# Altium footprint library test_lib.PcbLib: 22 footprints (part 1 of 2)
Each footprint in its own frame and in the unit in brackets; x right, y up, seen from the top. Pads: shape width x height; smd on the part's side, far side on the other; paste and mask are expansions set on the pad; w line width, h text height; cw(c..) or ccw(c..) is an arc to the next point about the centre after c.
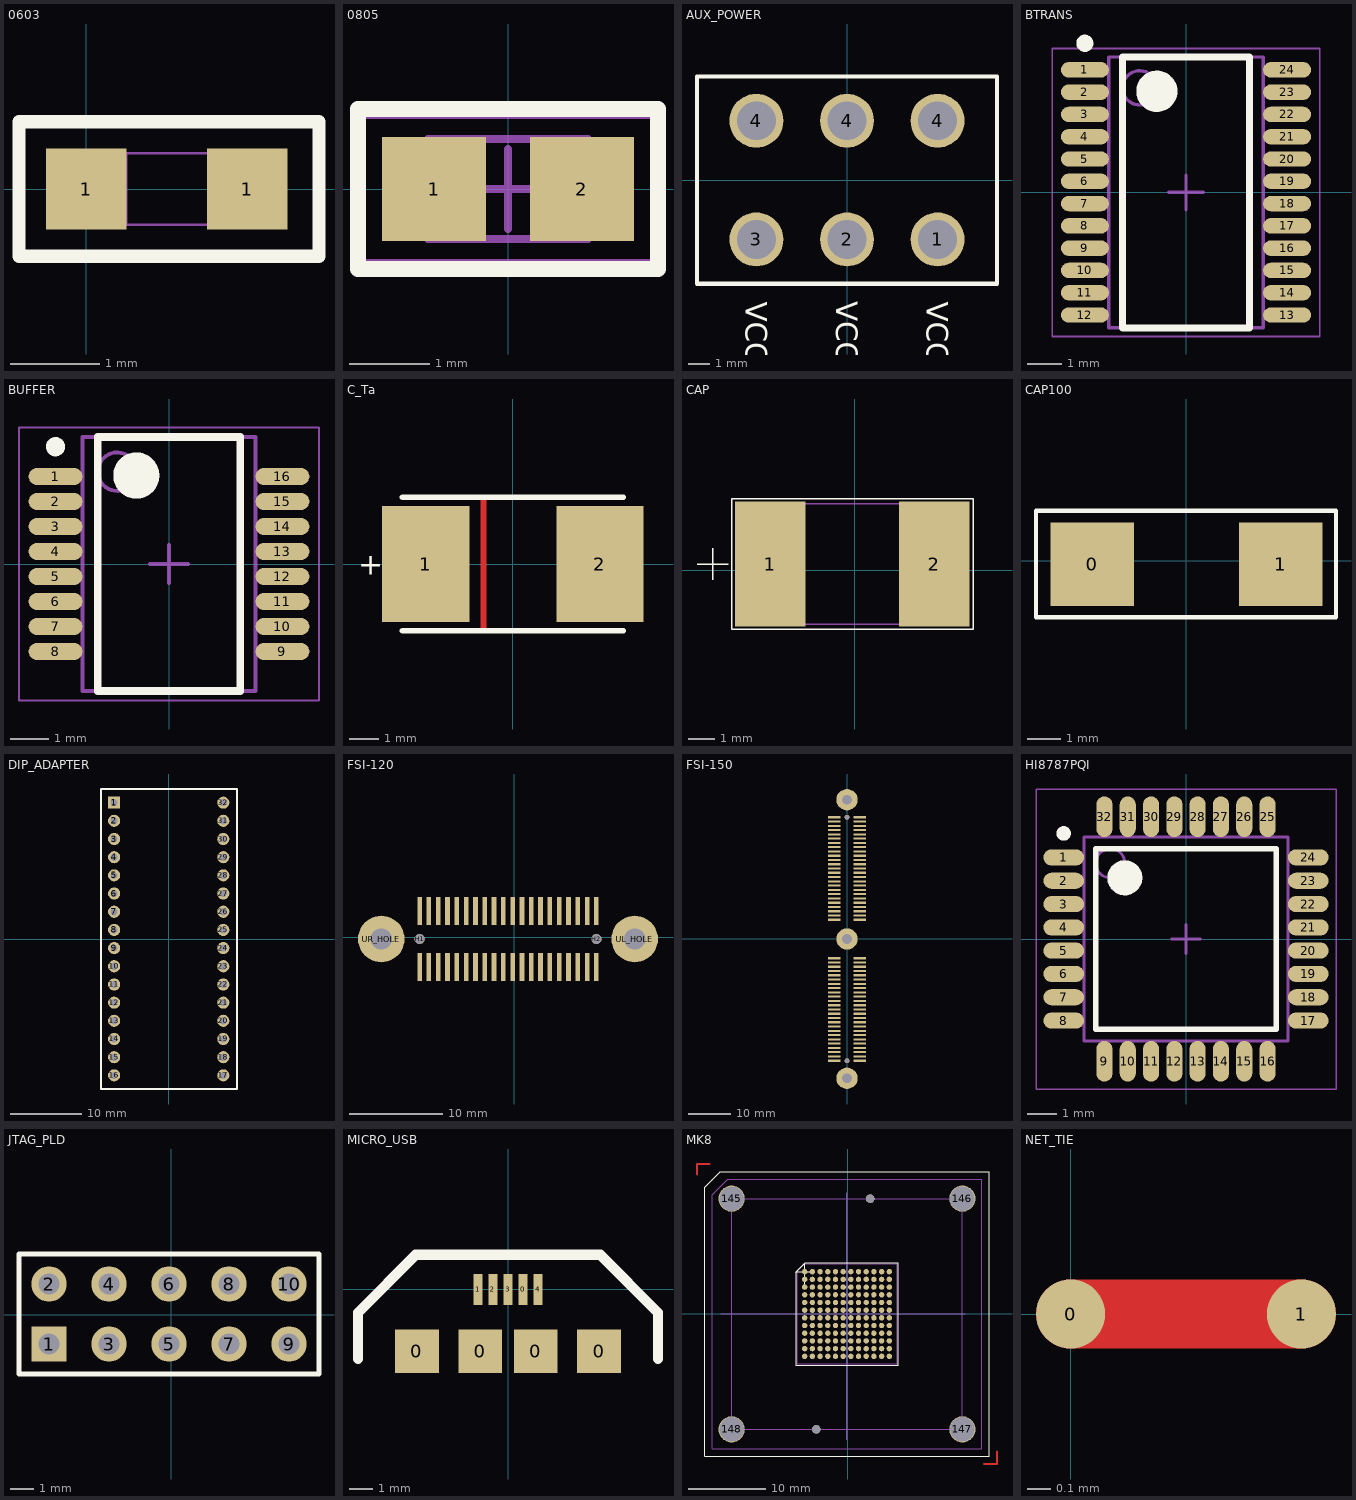
[diagram p0: the footprints below, top view; thin cyan lines are the x and y axes]

## 0603 [mm] "0603 footprint"
pads (2):
  rect 0.9x0.9 smd: 1(0,0)
  rect 0.9x0.9 smd mask+0.102: 1(1.8,0)
Top Overlay:
  lines w0.15: -0.75,-0.75 2.6,-0.75 2.6,-0.375 2.6,0.375 2.6,0.75 -0.75,0.75 -0.75,-0.75
Mechanical 1:
  lines w0.025: 0.15,0.4 0.15,-0.4 1.75,-0.4 1.75,0.4 0.16,0.4 ; 1.46,-0.4 1.46,0.4
Mechanical 2:
  lines w0.025: 0.45,-0.4 0.45,0.4

## 0805 [mm]
height 0.4
pads (2):
  rect 1.3x1.3 smd: 1(-0.925,0) 2(0.925,0)
Top Overlay:
  lines w0.2: -1.875,-1 -1.875,1 1.875,1 1.875,-1 -1.875,-1
Mechanical 13:
  lines w0.1: -1,-0.625 1,-0.625 1,0.625 -1,0.625 -1,-0.625
Mechanical 15:
  lines w0.05: -1.825,-0.9 1.825,-0.9 1.825,0.9 -1.825,0.9 -1.825,-0.9
  lines w0.1: -0.5,0 0.5,0 ; 0,-0.5 0,0.5
3D body: height 0.4, standoff 0, extent -1,-0.625 1,0.625

## AUX_POWER [mm] "auxiliary power port"
pads (6):
  round 2.5 hole 1.8: 1(4.2,-2.75) 2(0,-2.75) 3(-4.2,-2.75) 4(-4.2,2.75) 4(0,2.75) 4(4.2,2.75)
Top Overlay:
  lines w0.2: -6.95,-4.8 -6.95,4.8 6.95,4.8 6.95,-4.8 -6.95,-4.8
  text "VCC1" at 3.7,-5.625 h1
  text "VCC2" at -0.5,-5.625 h1
  text "VCC3-" at -4.7,-5.625 h1

## BTRANS [mm]
height 1.2
pads (24):
  oval 1.4x0.45 smd: 1(-2.95,3.575) 2(-2.95,2.925) 3(-2.95,2.275) 4(-2.95,1.625) 5(-2.95,0.975) 6(-2.95,0.325) 7(-2.95,-0.325) 8(-2.95,-0.975) 9(-2.95,-1.625) 10(-2.95,-2.275) 11(-2.95,-2.925) 12(-2.95,-3.575) 13(2.95,-3.575) 14(2.95,-2.925) 15(2.95,-2.275) 16(2.95,-1.625) 17(2.95,-0.975) 18(2.95,-0.325) 19(2.95,0.325) 20(2.95,0.975) 21(2.95,1.625) 22(2.95,2.275) 23(2.95,2.925) 24(2.95,3.575)
Top Overlay:
  circle w0.25: c-2.95,4.35 r0.125
  circle w0.6: c-0.85,2.95 r0.3
  lines w0.2: -1.85,-3.95 -1.85,3.95 1.85,3.95 1.85,-3.95 -1.85,-3.95
Mechanical 13:
  circle w0.1: c-1.35,3.05 r0.5
  lines w0.1: -2.25,-3.95 -2.25,3.95 2.25,3.95 2.25,-3.95 -2.25,-3.95
Mechanical 15:
  lines w0.05: -3.9,-4.2 -3.9,4.2 3.9,4.2 3.9,-4.2 -3.9,-4.2
  lines w0.1: -0.5,0 0.5,0 ; 0,-0.5 0,0.5
3D body: height 1.2, standoff 0.05, extent -2.25,-3.95 2.25,3.95

## BUFFER [mm] "txs0108epwr voltage translator"
height 1.2
pads (16):
  oval 1.4x0.45 smd: 1(-2.95,2.275) 2(-2.95,1.625) 3(-2.95,0.975) 4(-2.95,0.325) 5(-2.95,-0.325) 6(-2.95,-0.975) 7(-2.95,-1.625) 8(-2.95,-2.275) 9(2.95,-2.275) 10(2.95,-1.625) 11(2.95,-0.975) 12(2.95,-0.325) 13(2.95,0.325) 14(2.95,0.975) 15(2.95,1.625) 16(2.95,2.275)
Top Overlay:
  circle w0.25: c-2.95,3.05 r0.125
  circle w0.6: c-0.85,2.3 r0.3
  lines w0.2: -1.85,-3.3 -1.85,3.3 1.85,3.3 1.85,-3.3 -1.85,-3.3
Mechanical 13:
  circle w0.1: c-1.35,2.4 r0.5
  lines w0.1: -2.25,-3.3 -2.25,3.3 2.25,3.3 2.25,-3.3 -2.25,-3.3
Mechanical 15:
  lines w0.05: -3.9,-3.55 -3.9,3.55 3.9,3.55 3.9,-3.55 -3.9,-3.55
  lines w0.1: -0.5,0 0.5,0 ; 0,-0.5 0,0.5
3D body: height 1.2, standoff 0.15, extent -2.25,-3.3 2.25,3.3

## C_Ta [mm]
pads (2):
  rect 3x4 smd: 1(-3,0) 2(3,0)
Top Layer:
  lines w0.2: -1.016,-2.159 -1.016,2.159
Top Overlay:
  lines w0.2: -3.8,-2.3 3.8,-2.3 ; -3.8,2.3 3.8,2.3
  text "+" at -5.334,-0.375 h0.75
3D body "CAPMP7343X430N.stp": height 4.3, standoff 0, extent -3.8,-2.3 3.8,2.3

## CAP [mm]
pads (2):
  rect 2.7x4.8 smd: 1(-3.238,0.24) 2(3.062,0.24)
Top Overlay:
  lines w0.05: -6.038,0.24 -4.838,0.24 ; -5.438,-0.36 -5.438,0.84 ; -4.698,-2.26 -4.698,2.74 4.552,2.74 4.552,-2.26 -4.698,-2.26
Mechanical 1:
  lines w0.05: -3.788,-2.06 -3.788,2.54 3.612,2.54 3.612,-2.06 -3.788,-2.06

## CAP100 [mm]
pads (2):
  rect 2.5x2.5 smd: 0(-2.812,-0.111) 1(2.838,-0.111)
Top Layer:
  lines w0.5: 2.236,-0.111 2.838,-0.111 2.838,-0.913
Top Overlay:
  lines w0.125: -4.5,-1.7 -4.5,1.5 4.5,1.5 4.5,-1.7 -4.5,-1.7

## DIP_ADAPTER [mm]
pads (32):
  rect 1.7x1.7 hole 1: 1(-7.625,19.1)
  round 1.7 hole 1: 2(-7.625,16.56) 3(-7.625,14.02) 4(-7.625,11.48) 5(-7.625,8.94) 6(-7.625,6.4) 7(-7.625,3.86) 8(-7.625,1.32) 9(-7.625,-1.22) 10(-7.625,-3.76) 11(-7.625,-6.3) 12(-7.625,-8.84) 13(-7.625,-11.38) 14(-7.625,-13.92) 15(-7.625,-16.46) 16(-7.625,-19) 17(7.625,-19) 18(7.625,-16.46) 19(7.625,-13.92) 20(7.625,-11.38) 21(7.625,-8.84) 22(7.625,-6.3) 23(7.625,-3.76) 24(7.625,-1.22) 25(7.625,1.32) 26(7.625,3.86) 27(7.625,6.4) 28(7.625,8.94) 29(7.625,11.48) 30(7.625,14.02) 31(7.625,16.56) 32(7.625,19.1)
Top Overlay:
  lines w0.254: -9.45,-20.905 -9.45,21.005 9.53,21.005 9.53,-20.905 -9.45,-20.905

## FSI-120 [mm]
pads (44):
  rect 0.5x3 smd: 1(8.833,-3.186) 2(7.833,-3.186) 3(6.833,-3.186) 4(5.833,-3.186) 5(4.833,-3.186) 6(3.833,-3.186) 7(2.833,-3.186) 8(1.833,-3.186) 9(0.833,-3.186) 10(-0.167,-3.186) 11(-1.167,-3.186) 12(-2.167,-3.186) 13(-3.167,-3.186) 14(-4.167,-3.186) 15(-5.167,-3.186) 16(-6.167,-3.186) 17(-7.167,-3.186) 18(-8.167,-3.186) 19(-9.167,-3.186) 20(-10.167,-3.186) 21(-10.167,2.814) 22(-9.167,2.814) 23(-8.167,2.814) 24(-7.167,2.814) 25(-6.167,2.814) 26(-5.167,2.814) 27(-4.167,2.814) 28(-3.167,2.814) 29(-2.167,2.814) 30(-1.167,2.814) 31(-0.167,2.814) 32(0.833,2.814) 33(1.833,2.814) 34(2.833,2.814) 35(3.833,2.814) 36(4.833,2.814) 37(5.833,2.814) 38(6.833,2.814) 39(7.833,2.814) 40(8.833,2.814)
  round 1.1 hole 1.1 unplated: H1(-10.167,-0.186) H2(8.833,-0.186)
  round 5 hole 2.3: UL_HOLE(12.953,-0.186) UR_HOLE(-14.287,-0.186)
3D body "FSI-120-06-L-D-M-AD.stp": height 8.25, standoff -0.55, extent -17.717,-5.186 16.383,4.814

## FSI-150 [mm]
pads (105):
  round 1.1 hole 1.1 unplated: 1(-0.063,-28.521) 1(-0.063,28.479)
  rect 3x0.5 smd: R_1(2.937,-28.52) R_2(-3.063,-28.52) R_3(2.937,-27.52) R_4(-3.063,-27.52) R_5(2.937,-26.52) R_6(-3.063,-26.52) R_7(2.937,-25.52) R_8(-3.063,-25.52) R_9(2.937,-24.52) R_10(-3.063,-24.52) R_11(2.937,-23.52) R_12(-3.063,-23.52) R_13(2.937,-22.52) R_14(-3.063,-22.52) R_15(2.937,-21.52) R_16(-3.063,-21.52) R_17(2.937,-20.52) R_18(-3.063,-20.52) R_19(2.937,-19.52) R_20(-3.063,-19.52) R_21(2.937,-18.52) R_22(-3.063,-18.52) R_23(2.937,-17.52) R_24(-3.063,-17.52) R_25(2.937,-16.52) R_26(-3.063,-16.52) R_27(2.937,-15.52) R_28(-3.063,-15.52) R_29(2.937,-14.52) R_30(-3.063,-14.52) R_31(2.937,-13.52) R_32(-3.063,-13.52) R_33(2.937,-12.52) R_34(-3.063,-12.52) R_35(2.937,-11.52) R_36(-3.063,-11.52) R_37(2.937,-10.52) R_38(-3.063,-10.52) R_39(2.937,-9.52) R_40(-3.063,-9.52) R_41(2.937,-8.52) R_42(-3.063,-8.52) R_43(2.937,-7.52) R_44(-3.063,-7.52) R_45(2.937,-6.52) R_46(-3.063,-6.52) R_47(2.937,-5.52) R_48(-3.063,-5.52) R_49(2.937,-4.52) R_50(-3.063,-4.52) R_51(2.937,4.479) R_52(-3.063,4.479) R_53(2.937,5.479) R_54(-3.063,5.479) R_55(2.937,6.479) R_56(-3.063,6.479) R_57(2.937,7.479) R_58(-3.063,7.479) R_59(2.937,8.479) R_60(-3.063,8.479) R_61(2.937,9.479) R_62(-3.063,9.479) R_63(2.937,10.479) R_64(-3.063,10.479) R_65(2.937,11.479) R_66(-3.063,11.479) R_67(2.937,12.479) R_68(-3.063,12.479) R_69(2.937,13.479) R_70(-3.063,13.479) R_71(2.937,14.479) R_72(-3.063,14.479) R_73(2.937,15.479) R_74(-3.063,15.479) R_75(2.937,16.479) R_76(-3.063,16.479) R_77(2.937,17.479) R_78(-3.063,17.479) R_79(2.937,18.479) R_80(-3.063,18.479) R_81(2.937,19.479) R_82(-3.063,19.479) R_83(2.937,20.479) R_84(-3.063,20.479) R_85(2.937,21.479) R_86(-3.063,21.479) R_87(2.937,22.479) R_88(-3.063,22.479) R_89(2.937,23.479) R_90(-3.063,23.479) R_91(2.937,24.479) R_92(-3.063,24.479) R_93(2.937,25.479) R_94(-3.063,25.479) R_95(2.937,26.479) R_96(-3.063,26.479) R_97(2.937,27.479) R_98(-3.063,27.479) R_99(2.937,28.479) R_100(-3.063,28.479)
  round 5 hole 2.3: RB_HOLE(-0.063,-32.641) RM_HOLE(-0.063,-0.021) RU_HOLE(-0.063,32.599)
3D body "FSI-150-06-L-D-M-AD.stp": height 8.25, standoff -0.55, extent -5.141,-36.051 4.859,36.049

## HI8787PQI [mm]
pads (32):
  oval 1.4x0.55 smd: 1(-4.2,2.8) 2(-4.2,2) 3(-4.2,1.2) 4(-4.2,0.4) 5(-4.2,-0.4) 6(-4.2,-1.2) 7(-4.2,-2) 8(-4.2,-2.8) 17(4.2,-2.8) 18(4.2,-2) 19(4.2,-1.2) 20(4.2,-0.4) 21(4.2,0.4) 22(4.2,1.2) 23(4.2,2) 24(4.2,2.8)
  oval 0.55x1.4 smd: 9(-2.8,-4.2) 10(-2,-4.2) 11(-1.2,-4.2) 12(-0.4,-4.2) 13(0.4,-4.2) 14(1.2,-4.2) 15(2,-4.2) 16(2.8,-4.2) 25(2.8,4.2) 26(2,4.2) 27(1.2,4.2) 28(0.4,4.2) 29(-0.4,4.2) 30(-1.2,4.2) 31(-2,4.2) 32(-2.8,4.2)
Top Overlay:
  circle w0.6: c-2.1,2.1 r0.3
  circle w0.25: c-4.2,3.625 r0.125
  lines w0.2: -3.1,-3.1 3.1,-3.1 3.1,3.1 -3.1,3.1 -3.1,-3.1
Mechanical 13:
  circle w0.1: c-2.6,2.6 r0.5
  lines w0.1: -3.5,-3.5 3.5,-3.5 3.5,3.5 -3.5,3.5 -3.5,-3.5
Mechanical 15:
  lines w0.05: -5.15,-5.15 5.15,-5.15 5.15,5.15 -5.15,5.15 -5.15,-5.15
  lines w0.1: -0.5,0 0.5,0 ; 0,-0.5 0,0.5
3D body: height 1.2, standoff 0.05, extent -3.5,-3.5 3.5,3.5

## JTAG_PLD [mm]
pads (10):
  rect 1.5x1.5 hole 0.9: 1(-5.166,-1.248)
  round 1.5 hole 0.9: 2(-5.166,1.292) 3(-2.626,-1.248) 4(-2.626,1.292) 5(-0.086,-1.248) 6(-0.086,1.292) 7(2.454,-1.248) 8(2.454,1.292) 9(4.994,-1.248) 10(4.994,1.292)
Top Overlay:
  lines w0.2: -6.436,-2.518 6.264,-2.518 6.264,2.562 -6.436,2.562 -6.436,-2.518
3D body "User Library-BoxHeader_2R5W_254P_00D.step": height 9.1, standoff -3.1, extent -10.3,-4.4 10.3,4.4

## MICRO_USB [mm] "smd micro usb connector"
pads (9):
  rect 1.9x1.9 smd: 0(-3.95,-2.675) 0(-1.2,-2.675) 0(1.2,-2.675) 0(3.95,-2.675)
  rect 0.4x1.35 smd: 0(0.65,0) 1(-1.3,0) 2(-0.65,0) 3(0,0) 4(1.3,0)
Top Overlay:
  lines w0.45: -6.5,-3 -6.5,-1 -4,1.5 4,1.5 6.5,-1 6.5,-3
3D body "User Library-micro usb SMD.step": height 2.73, standoff 0.03, extent -3.9,-4.55 3.9,0.45

## MK8 [mm]
pads (150):
  round 3.4 / inner round 3.4 / far side round 6 hole 3.2: 145(-15.071,14.976) 146(14.929,14.976) 147(14.929,-15.024) 148(-15.071,-15.024)
  round 1.1 hole 1.1 unplated: 149(2.929,14.976) 150(-4.071,-15.024)
  round 0.7 smd paste-25.4 mask-25.4: A1(-5.571,5.476) A2(-4.571,5.476) A3(-3.571,5.476) A4(-2.571,5.476) A5(-1.571,5.476) A6(-0.571,5.476) A7(0.429,5.476) A8(1.429,5.476) A9(2.429,5.476) A10(3.429,5.476) A11(4.429,5.476) A12(5.429,5.476) B1(-5.571,4.476) B2(-4.571,4.476) B3(-3.571,4.476) B4(-2.571,4.476) B5(-1.571,4.476) B6(-0.571,4.476) B7(0.429,4.476) B8(1.429,4.476) B9(2.429,4.476) B10(3.429,4.476) B11(4.429,4.476) B12(5.429,4.476) C1(-5.571,3.476) C2(-4.571,3.476) C3(-3.571,3.476) C4(-2.571,3.476) C5(-1.571,3.476) C6(-0.571,3.476) C7(0.429,3.476) C8(1.429,3.476) C9(2.429,3.476) C10(3.429,3.476) C11(4.429,3.476) C12(5.429,3.476) D1(-5.571,2.476) D2(-4.571,2.476) D3(-3.571,2.476) D4(-2.571,2.476) D5(-1.571,2.476) D6(-0.571,2.476) D7(0.429,2.476) D8(1.429,2.476) D9(2.429,2.476) D10(3.429,2.476) D11(4.429,2.476) D12(5.429,2.476) F1(-5.571,1.476) F2(-4.571,1.476) F3(-3.571,1.476) F4(-2.571,1.476) F5(-1.571,1.476) F6(-0.571,1.476) F7(0.429,1.476) F8(1.429,1.476) F9(2.429,1.476) F10(3.429,1.476) F11(4.429,1.476) F12(5.429,1.476) G1(-5.571,0.476) G2(-4.571,0.476) G3(-3.571,0.476) G4(-2.571,0.476) G5(-1.571,0.476) G6(-0.571,0.476) G7(0.429,0.476) G8(1.429,0.476) G9(2.429,0.476) G10(3.429,0.476) G11(4.429,0.476) G12(5.429,0.476) H1(-5.571,-0.524) H2(-4.571,-0.524) H3(-3.571,-0.524) H4(-2.571,-0.524) H5(-1.571,-0.524) H6(-0.571,-0.524) H7(0.429,-0.524) H8(1.429,-0.524) H9(2.429,-0.524) H10(3.429,-0.524) H11(4.429,-0.524) H12(5.429,-0.524) J1(-5.571,-1.524) J2(-4.571,-1.524) J3(-3.571,-1.524) J4(-2.571,-1.524) J5(-1.571,-1.524) J6(-0.571,-1.524) J7(0.429,-1.524) J8(1.429,-1.524) J9(2.429,-1.524) J10(3.429,-1.524) J11(4.429,-1.524) J12(5.429,-1.524) K1(-5.571,-2.524) K2(-4.571,-2.524) K3(-3.571,-2.524) K4(-2.571,-2.524) K5(-1.571,-2.524) K6(-0.571,-2.524) K7(0.429,-2.524) K8(1.429,-2.524) K9(2.429,-2.524) K10(3.429,-2.524) K11(4.429,-2.524) K12(5.429,-2.524) L1(-5.571,-3.524) L2(-4.571,-3.524) L3(-3.571,-3.524) L4(-2.571,-3.524) L5(-1.571,-3.524) L6(-0.571,-3.524) L7(0.429,-3.524) L8(1.429,-3.524) L9(2.429,-3.524) L10(3.429,-3.524) L11(4.429,-3.524) L12(5.429,-3.524) M1(-5.571,-4.524) M2(-4.571,-4.524) M3(-3.571,-4.524) M4(-2.571,-4.524) M5(-1.571,-4.524) M6(-0.571,-4.524) M7(0.429,-4.524) M8(1.429,-4.524) M9(2.429,-4.524) M10(3.429,-4.524) M11(4.429,-4.524) M12(5.429,-4.524) N1(-5.571,-5.524) N2(-4.571,-5.524) N3(-3.571,-5.524) N4(-2.571,-5.524) N5(-1.571,-5.524) N6(-0.571,-5.524) N7(0.429,-5.524) N8(1.429,-5.524) N9(2.429,-5.524) N10(3.429,-5.524) N11(4.429,-5.524) N12(5.429,-5.524)
Top Layer:
  lines w0.25: -19.571,18.076 -19.571,19.476 -17.921,19.476 ; 17.729,-19.524 19.429,-19.524 19.429,-17.924
Top Overlay:
  lines w0.025: -6.571,5.476 -4.571,5.476 ; -5.571,3.476 -5.571,6.476
  lines w0.125: -18.571,-18.524 18.429,-18.524 18.429,18.476 -16.571,18.476 -18.571,16.476 -18.571,-18.524
  lines w0.152: -6.741,5.396 -6.739,-6.691 6.596,-6.691 6.596,6.644 -5.491,6.646 -6.739,5.394
Top Paste:
  drawing of 144 lines, arcs and shapes, not listed
Top Solder:
  drawing of 144 lines, arcs and shapes, not listed
Mechanical 1:
  lines w0.125: -17.571,-17.524 17.429,-17.524 17.429,17.476 -15.571,17.476 -17.571,15.476 -17.571,-17.524
  lines w0.152: -6.541,5.606 -5.631,6.496 6.459,6.496 6.459,-6.504 -6.541,-6.504 -6.541,5.616
Mechanical 3:
  lines w0.125: -16.491,-0.024 15.299,-0.024 ; -15.991,-15.024 15.359,-15.024 ; -15.431,14.976 15.509,14.976 ; -15.071,-15.454 -15.071,15.056 ; -0.071,-16.364 -0.071,15.726 ; 14.929,-15.404 14.929,15.476

## NET_TIE [mm]
pads (2):
  round 0.3 smd mask+0: 0(0,0) 1(1,0)
Top Layer:
  lines w0.3: 0,0 1,0